# Altium schematic symbol library TPS715A01DRBR.SchLib: 1 symbol
Pins are listed as number, name and electrical type; pins without a type are passive.

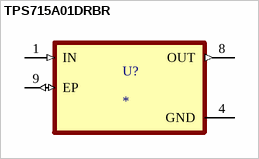
[diagram p0: symbol TPS715A01DRBR]

## TPS715A01DRBR
designator U?
MP: TPS715A01DRBR; Package: None; Price: None; Value: *; Availability: Unavailable
footprint IC_DRV8601DRBT
pins: 1 IN (in), 4 GND (power), 8 OUT (out), 9 EP (io)